# Altium integrated library Cypress PSoC 1.IntLib: 188 symbols (part 1 of 11)
Pins are listed as number, name and electrical type; pins without a type are passive.

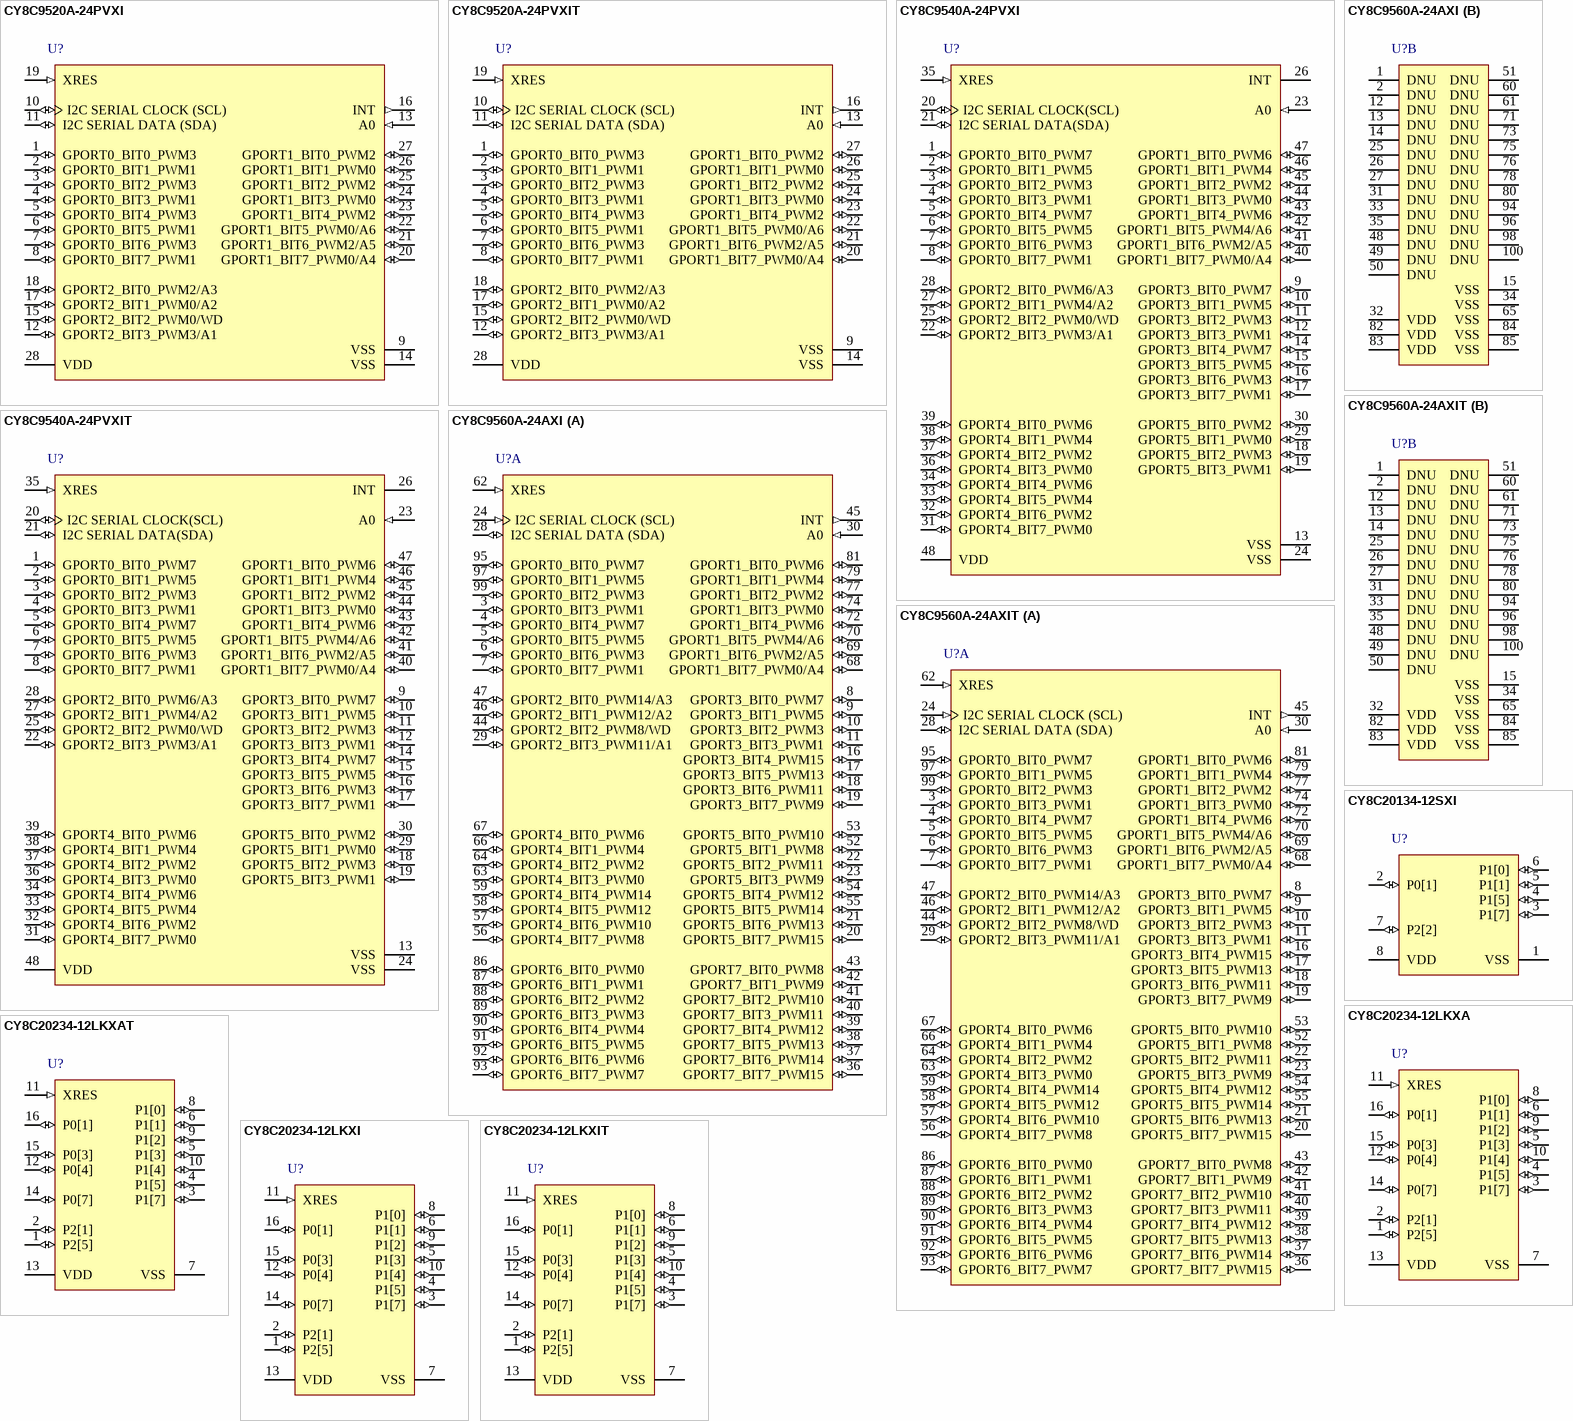
[diagram p0: symbols CY8C9520A-24PVXI to CY8C20234-12LKXIT]

## CY8C9520A-24PVXI
designator U?
20-Bit I/O Expander with EEPROM, 3 KB Flash, 20 GPIOs, 3.00 to 5.25 V, 28-Pin SSOP (O28.21); Manufacturer: Cypress; PartNumber: CY8C9520A-24PVXI; Flash (KB): 3; Max. Operating Voltage (V): 5.25; Min. Operating Voltage (V): 3.00; DatasheetVersion: Rev. *F; PackageVersion: *C; PackageReference: PVX28; PackageDescription: 28-Pin SSOP, Body 10.2 x 5.3 mm, Pitch 0.65 mm; Supplier 1: Digi-Key; Supplier Part Number 1: 428-2015-5-ND; Supplier 2: Farnell; Supplier Part Number 2: 1876382; Supplier 3: Newark; Supplier Part Number 3: 41M1395; Supplier 4: Mouser; Supplier Part Number 4: 727-CY8C9520A-24PVXI; Mounting Technology: Surface Mount; ComponentLink1Description: Manufacturer URL; ComponentLink1URL: http://www.cypress.com/; ComponentLink2Description: Datasheet; ComponentLink2URL: http://www.cypress.com/?docID=31413; ComponentLink3Description: Package Specification; ComponentLink3URL: http://www.cypress.com/?docID=1371; ComponentLink4Description: Product URL; ComponentLink4URL: http://www.cypress.com/?rID=3354
footprint CYP-PVX28_N (SOP, 28-Leads, Body 10.2x5.3mm, Pitch 0.65mm, IPC Medium Density)
footprint CYP-PVX28_L (SOP, 28-Leads, Body 10.2x5.3mm, Pitch 0.65mm, IPC High Density)
footprint CYP-PVX28_M (SOP, 28-Leads, Body 10.2x5.3mm, Pitch 0.65mm, IPC Low Density)
pins: 1 GPORT0_BIT0_PWM3 (io) "Port 0, Bit 0, PWM 3.", 2 GPORT0_BIT1_PWM1 (io) "Port 0, Bit 1, PWM 1", 3 GPORT0_BIT2_PWM3 (io) "Port 0, Bit 2, PWM 3.", 4 GPORT0_BIT3_PWM1 (io) "Port 0, Bit 3, PWM 1.", 5 GPORT0_BIT4_PWM3 (io) "Port 0, Bit 4, PWM 3.", 6 GPORT0_BIT5_PWM1 (io) "Port 0, Bit 5, PWM 1.", 7 GPORT0_BIT6_PWM3 (io) "Port 0, Bit 6, PWM 3.", 8 GPORT0_BIT7_PWM1 (io) "Port 0, Bit 7, PWM 1.", 9 VSS (power) "Ground connection.", 10 I2C SERIAL CLOCK (SCL) (io) "I2C Clock.", 11 I2C SERIAL DATA (SDA) (io) "I2C Data.", 12 GPORT2_BIT3_PWM3/A1 (io) "Port 2, Bit 3, PWM 3, Address 1.", 13 A0 (in) "Address 0.", 14 VSS (power) "Ground connection.", 15 GPORT2_BIT2_PWM0/WD (io) "Port 2, Bit 2, PWM 0, E2 Write Disable.", 16 INT (out), 17 GPORT2_BIT1_PWM0/A2 (io) "Port 2, Bit 1, PWM 0, Address 2.", 18 GPORT2_BIT0_PWM2/A3 (io) "Port 2, Bit 0, PWM 2, Address 3.", 19 XRES (in) "Active high external reset with internal pull down.", 20 GPORT1_BIT7_PWM0/A4 (io) "Port 1, Bit 7, PWM 0, Address 4.", 21 GPORT1_BIT6_PWM2/A5 (io) "Port 1, Bit 6, PWM 2, Address 5.", 22 GPORT1_BIT5_PWM0/A6 (io) "Port 1, Bit 5, PWM 0, Address 6.", 23 GPORT1_BIT4_PWM2 (io) "Port 1, Bit 4, PWM 2.", 24 GPORT1_BIT3_PWM0 (io) "Port 1, Bit 3, PWM 0.", 25 GPORT1_BIT2_PWM2 (io) "Port 1, Bit 2, PWM 2.", 26 GPORT1_BIT1_PWM0 (io) "Port 1, Bit 1, PWM 0.", 27 GPORT1_BIT0_PWM2 (io) "Port 1, Bit 0, PWM 2.", 28 VDD (power) "Supply voltage."

## CY8C9520A-24PVXIT
designator U?
20-Bit I/O Expander with EEPROM, 3 KB Flash, 20 GPIOs, 3.00 to 5.25 V, 28-Pin SSOP (O28.21), Tape and Reel; Manufacturer: Cypress; PartNumber: CY8C9520A-24PVXIT; Flash (KB): 3; Max. Operating Voltage (V): 5.25; Min. Operating Voltage (V): 3.00; DatasheetVersion: Rev. *F; PackageVersion: *C; PackageReference: PVX28; PackageDescription: 28-Pin SSOP, Body 10.2 x 5.3 mm, Pitch 0.65 mm; Supplier 1: Digi-Key; Supplier Part Number 1: CY8C9520A-24PVXIT-ND; Supplier 2: Mouser; Supplier Part Number 2: 727-CY8C9520A24PVXIT; Mounting Technology: Surface Mount; ComponentLink1Description: Manufacturer URL; ComponentLink1URL: http://www.cypress.com/; ComponentLink2Description: Datasheet; ComponentLink2URL: http://www.cypress.com/?docID=31413; ComponentLink3Description: Package Specification; ComponentLink3URL: http://www.cypress.com/?docID=1371; ComponentLink4Description: Product URL; ComponentLink4URL: http://www.cypress.com/?rID=3354
footprint CYP-PVX28_N (SOP, 28-Leads, Body 10.2x5.3mm, Pitch 0.65mm, IPC Medium Density)
footprint CYP-PVX28_L (SOP, 28-Leads, Body 10.2x5.3mm, Pitch 0.65mm, IPC High Density)
footprint CYP-PVX28_M (SOP, 28-Leads, Body 10.2x5.3mm, Pitch 0.65mm, IPC Low Density)
pins: 1 GPORT0_BIT0_PWM3 (io) "Port 0, Bit 0, PWM 3.", 2 GPORT0_BIT1_PWM1 (io) "Port 0, Bit 1, PWM 1", 3 GPORT0_BIT2_PWM3 (io) "Port 0, Bit 2, PWM 3.", 4 GPORT0_BIT3_PWM1 (io) "Port 0, Bit 3, PWM 1.", 5 GPORT0_BIT4_PWM3 (io) "Port 0, Bit 4, PWM 3.", 6 GPORT0_BIT5_PWM1 (io) "Port 0, Bit 5, PWM 1.", 7 GPORT0_BIT6_PWM3 (io) "Port 0, Bit 6, PWM 3.", 8 GPORT0_BIT7_PWM1 (io) "Port 0, Bit 7, PWM 1.", 9 VSS (power) "Ground connection.", 10 I2C SERIAL CLOCK (SCL) (io) "I2C Clock.", 11 I2C SERIAL DATA (SDA) (io) "I2C Data.", 12 GPORT2_BIT3_PWM3/A1 (io) "Port 2, Bit 3, PWM 3, Address 1.", 13 A0 (in) "Address 0.", 14 VSS (power) "Ground connection.", 15 GPORT2_BIT2_PWM0/WD (io) "Port 2, Bit 2, PWM 0, E2 Write Disable.", 16 INT (out), 17 GPORT2_BIT1_PWM0/A2 (io) "Port 2, Bit 1, PWM 0, Address 2.", 18 GPORT2_BIT0_PWM2/A3 (io) "Port 2, Bit 0, PWM 2, Address 3.", 19 XRES (in) "Active high external reset with internal pull down.", 20 GPORT1_BIT7_PWM0/A4 (io) "Port 1, Bit 7, PWM 0, Address 4.", 21 GPORT1_BIT6_PWM2/A5 (io) "Port 1, Bit 6, PWM 2, Address 5.", 22 GPORT1_BIT5_PWM0/A6 (io) "Port 1, Bit 5, PWM 0, Address 6.", 23 GPORT1_BIT4_PWM2 (io) "Port 1, Bit 4, PWM 2.", 24 GPORT1_BIT3_PWM0 (io) "Port 1, Bit 3, PWM 0.", 25 GPORT1_BIT2_PWM2 (io) "Port 1, Bit 2, PWM 2.", 26 GPORT1_BIT1_PWM0 (io) "Port 1, Bit 1, PWM 0.", 27 GPORT1_BIT0_PWM2 (io) "Port 1, Bit 0, PWM 2.", 28 VDD (power) "Supply voltage."

## CY8C9540A-24PVXI
designator U?
60-Bit I/O Expander with EEPROM, 11 KB Flash, 40 GPIOs, 3.00 to 5.25 V, 48-Pin SSOP (O483); Manufacturer: Cypress; PartNumber: CY8C9540A-24PVXI; Flash (KB): 11; Max. Operating Voltage (V): 5.25; Min. Operating Voltage (V): 3.00; DatasheetVersion: Rev. *F; PackageVersion: *D; PackageReference: PVX48; PackageDescription: 48-Pin Shrunk Small Outline Package, Body 15.88 x 7.51 mm, Pitch 0.64 mm; Supplier 1: Digi-Key; Supplier Part Number 1: 428-2016-5-ND; Supplier 2: Mouser; Supplier Part Number 2: 727-CY8C9540A-24PVXI; Mounting Technology: Surface Mount; ComponentLink1Description: Manufacturer URL; ComponentLink1URL: http://www.cypress.com/; ComponentLink2Description: Datasheet; ComponentLink2URL: http://www.cypress.com/?docID=31413; ComponentLink3Description: Package Specification; ComponentLink3URL: http://www.cypress.com/?docID=39235; ComponentLink4Description: Product URL; ComponentLink4URL: http://www.cypress.com/?rID=3354
footprint CYP-PVX48_N (SOP, 48-Leads, Body 15.88x7.51mm, Pitch 0.635mm, IPC Medium Density)
footprint CYP-PVX48_L (SOP, 48-Leads, Body 15.88x7.51mm, Pitch 0.635mm, IPC High Density)
footprint CYP-PVX48_M (SOP, 48-Leads, Body 15.88x7.51mm, Pitch 0.635mm, IPC Low Density)
pins: 1 GPORT0_BIT0_PWM7 (io) "Port 0, Bit 0, PWM 7.", 2 GPORT0_BIT1_PWM5 (io) "Port 0, Bit 1, PWM 5.", 3 GPORT0_BIT2_PWM3 (io) "Port 0, Bit 2, PWM 3.", 4 GPORT0_BIT3_PWM1 (io) "Port 0, Bit 3, PWM 1.", 5 GPORT0_BIT4_PWM7 (io) "Port 0, Bit 4, PWM 7.", 6 GPORT0_BIT5_PWM5 (io) "Port 0, Bit 5, PWM 5.", 7 GPORT0_BIT6_PWM3 (io) "Port 0, Bit 6, PWM 3.", 8 GPORT0_BIT7_PWM1 (io) "Port 0, Bit 7, PWM 1.", 9 GPORT3_BIT0_PWM7 (io) "Port 3, Bit 0, PWM 7.", 10 GPORT3_BIT1_PWM5 (io) "Port 3, Bit 1, PWM 5.", 11 GPORT3_BIT2_PWM3 (io) "Port 3, Bit 2, PWM 3.", 12 GPORT3_BIT3_PWM1 (io) "Port 3, Bit 3, PWM 1.", 13 VSS (power) "Ground connection.", 14 GPORT3_BIT4_PWM7 (io) "Port 3, Bit 4, PWM 7.", 15 GPORT3_BIT5_PWM5 (io) "Port 3, Bit 5, PWM 5.", 16 GPORT3_BIT6_PWM3 (io) "Port 3, Bit 6, PWM 3.", 17 GPORT3_BIT7_PWM1 (io) "Port 3, Bit 7, PWM 1.", 18 GPORT5_BIT2_PWM3 (io) "Port 5, Bit 2, PWM 3.", 19 GPORT5_BIT3_PWM1 (io) "Port 5, Bit 3, PWM 1.", 20 I2C SERIAL CLOCK(SCL) (io) "I2C Clock.", 21 I2C SERIAL DATA(SDA) (io) "I2C Data.", 22 GPORT2_BIT3_PWM3/A1 (io) "Port 2, Bit 3, PWM 3, Address 1.", 23 A0 (in) "Address 0.", 24 VSS (power) "Ground connection.", 25 GPORT2_BIT2_PWM0/WD (io) "Port 2, Bit 2, PWM 0, E2 Write Disable.", 26 INT (hiz), 27 GPORT2_BIT1_PWM4/A2 (io) "Port 2, Bit 1, PWM 4, Address 2.", 28 GPORT2_BIT0_PWM6/A3 (io) "Port 2, Bit 0, PWM 6, Address 3.", 29 GPORT5_BIT1_PWM0 (io) "Port 5, Bit 1, PWM 0.", 30 GPORT5_BIT0_PWM2 (io) "Port 5, Bit 0, PWM 2.", 31 GPORT4_BIT7_PWM0 (io) "Port 4, Bit 7, PWM 0.", 32 GPORT4_BIT6_PWM2 (io) "Port 4, Bit 6, PWM 2.", 33 GPORT4_BIT5_PWM4 (io) "Port 4, Bit 5, PWM 4.", 34 GPORT4_BIT4_PWM6 (io) "Port 4, Bit 4, PWM 6.", 35 XRES (in) "Active high external reset with internal pull down.", 36 GPORT4_BIT3_PWM0 (io) "Port 4, Bit 3, PWM 0.", 37 GPORT4_BIT2_PWM2 (io) "Port 4, Bit 2, PWM 2.", 38 GPORT4_BIT1_PWM4 (io) "Port 4, Bit 1, PWM 4.", 39 GPORT4_BIT0_PWM6 (io) "Port 4, Bit 0, PWM 6.", 40 GPORT1_BIT7_PWM0/A4 (io) "Port 1, Bit 7, PWM 0, Address 4.", 41 GPORT1_BIT6_PWM2/A5 (io) "Port 1, Bit 6, PWM 2, Address 5.", 42 GPORT1_BIT5_PWM4/A6 (io) "Port 1, Bit 5, PWM 4, Address 6.", 43 GPORT1_BIT4_PWM6 (io) "Port 1, Bit 4, PWM 6.", 44 GPORT1_BIT3_PWM0 (io) "Port 1, Bit 3, PWM 0.", 45 GPORT1_BIT2_PWM2 (io) "Port 1, Bit 2, PWM 2.", 46 GPORT1_BIT1_PWM4 (io) "Port 1, Bit 1, PWM 4.", 47 GPORT1_BIT0_PWM6 (io) "Port 1, Bit 0, PWM 6.", 48 VDD (power) "Supply voltage."

## CY8C9540A-24PVXIT
designator U?
60-Bit I/O Expander with EEPROM, 11 KB Flash, 40 GPIOs, 3.00 to 5.25 V, 48-Pin SSOP (O483), Tape and Reel; Manufacturer: Cypress; PartNumber: CY8C9540A-24PVXIT; Flash (KB): 11; Max. Operating Voltage (V): 5.25; Min. Operating Voltage (V): 3.00; DatasheetVersion: Rev. *F; PackageVersion: *D; PackageReference: PVX48; PackageDescription: 48-Pin Shrunk Small Outline Package, Body 15.88 x 7.51 mm, Pitch 0.64 mm; Supplier 1: Digi-Key; Supplier Part Number 1: CY8C9540A-24PVXIT-ND; Supplier 2: Mouser; Supplier Part Number 2: 727-CY8C9540A24PVXIT; Mounting Technology: Surface Mount; ComponentLink1Description: Manufacturer URL; ComponentLink1URL: http://www.cypress.com/; ComponentLink2Description: Datasheet; ComponentLink2URL: http://www.cypress.com/?docID=31413; ComponentLink3Description: Package Specification; ComponentLink3URL: http://www.cypress.com/?docID=39235; ComponentLink4Description: Product URL; ComponentLink4URL: http://www.cypress.com/?rID=3354
footprint CYP-PVX48_N (SOP, 48-Leads, Body 15.88x7.51mm, Pitch 0.635mm, IPC Medium Density)
footprint CYP-PVX48_L (SOP, 48-Leads, Body 15.88x7.51mm, Pitch 0.635mm, IPC High Density)
footprint CYP-PVX48_M (SOP, 48-Leads, Body 15.88x7.51mm, Pitch 0.635mm, IPC Low Density)
pins: 1 GPORT0_BIT0_PWM7 (io) "Port 0, Bit 0, PWM 7.", 2 GPORT0_BIT1_PWM5 (io) "Port 0, Bit 1, PWM 5.", 3 GPORT0_BIT2_PWM3 (io) "Port 0, Bit 2, PWM 3.", 4 GPORT0_BIT3_PWM1 (io) "Port 0, Bit 3, PWM 1.", 5 GPORT0_BIT4_PWM7 (io) "Port 0, Bit 4, PWM 7.", 6 GPORT0_BIT5_PWM5 (io) "Port 0, Bit 5, PWM 5.", 7 GPORT0_BIT6_PWM3 (io) "Port 0, Bit 6, PWM 3.", 8 GPORT0_BIT7_PWM1 (io) "Port 0, Bit 7, PWM 1.", 9 GPORT3_BIT0_PWM7 (io) "Port 3, Bit 0, PWM 7.", 10 GPORT3_BIT1_PWM5 (io) "Port 3, Bit 1, PWM 5.", 11 GPORT3_BIT2_PWM3 (io) "Port 3, Bit 2, PWM 3.", 12 GPORT3_BIT3_PWM1 (io) "Port 3, Bit 3, PWM 1.", 13 VSS (power) "Ground connection.", 14 GPORT3_BIT4_PWM7 (io) "Port 3, Bit 4, PWM 7.", 15 GPORT3_BIT5_PWM5 (io) "Port 3, Bit 5, PWM 5.", 16 GPORT3_BIT6_PWM3 (io) "Port 3, Bit 6, PWM 3.", 17 GPORT3_BIT7_PWM1 (io) "Port 3, Bit 7, PWM 1.", 18 GPORT5_BIT2_PWM3 (io) "Port 5, Bit 2, PWM 3.", 19 GPORT5_BIT3_PWM1 (io) "Port 5, Bit 3, PWM 1.", 20 I2C SERIAL CLOCK(SCL) (io) "I2C Clock.", 21 I2C SERIAL DATA(SDA) (io) "I2C Data.", 22 GPORT2_BIT3_PWM3/A1 (io) "Port 2, Bit 3, PWM 3, Address 1.", 23 A0 (in) "Address 0.", 24 VSS (power) "Ground connection.", 25 GPORT2_BIT2_PWM0/WD (io) "Port 2, Bit 2, PWM 0, E2 Write Disable.", 26 INT (hiz), 27 GPORT2_BIT1_PWM4/A2 (io) "Port 2, Bit 1, PWM 4, Address 2.", 28 GPORT2_BIT0_PWM6/A3 (io) "Port 2, Bit 0, PWM 6, Address 3.", 29 GPORT5_BIT1_PWM0 (io) "Port 5, Bit 1, PWM 0.", 30 GPORT5_BIT0_PWM2 (io) "Port 5, Bit 0, PWM 2.", 31 GPORT4_BIT7_PWM0 (io) "Port 4, Bit 7, PWM 0.", 32 GPORT4_BIT6_PWM2 (io) "Port 4, Bit 6, PWM 2.", 33 GPORT4_BIT5_PWM4 (io) "Port 4, Bit 5, PWM 4.", 34 GPORT4_BIT4_PWM6 (io) "Port 4, Bit 4, PWM 6.", 35 XRES (in) "Active high external reset with internal pull down.", 36 GPORT4_BIT3_PWM0 (io) "Port 4, Bit 3, PWM 0.", 37 GPORT4_BIT2_PWM2 (io) "Port 4, Bit 2, PWM 2.", 38 GPORT4_BIT1_PWM4 (io) "Port 4, Bit 1, PWM 4.", 39 GPORT4_BIT0_PWM6 (io) "Port 4, Bit 0, PWM 6.", 40 GPORT1_BIT7_PWM0/A4 (io) "Port 1, Bit 7, PWM 0, Address 4.", 41 GPORT1_BIT6_PWM2/A5 (io) "Port 1, Bit 6, PWM 2, Address 5.", 42 GPORT1_BIT5_PWM4/A6 (io) "Port 1, Bit 5, PWM 4, Address 6.", 43 GPORT1_BIT4_PWM6 (io) "Port 1, Bit 4, PWM 6.", 44 GPORT1_BIT3_PWM0 (io) "Port 1, Bit 3, PWM 0.", 45 GPORT1_BIT2_PWM2 (io) "Port 1, Bit 2, PWM 2.", 46 GPORT1_BIT1_PWM4 (io) "Port 1, Bit 1, PWM 4.", 47 GPORT1_BIT0_PWM6 (io) "Port 1, Bit 0, PWM 6.", 48 VDD (power) "Supply voltage."

## CY8C9560A-24AXI
designator U?
60-Bit I/O Expander with EEPROM, 27 KB Flash, 60 GPIOs, 3.00 to 5.25 V, 100-Pin TQFP (A100SA); Manufacturer: Cypress; PartNumber: CY8C9560A-24AXI; Flash (KB): 27; Max. Operating Voltage (V): 5.25; Min. Operating Voltage (V): 3.00; DatasheetVersion: Rev. *F; PackageVersion: *D; PackageReference: AX100; PackageDescription: 100-Pin Thin Plastic Quad Flatpack, Body 14 x14 mm, Pitch 0.5 mm; Supplier 1: Digi-Key; Supplier Part Number 1: 428-2017-ND; Supplier 2: Newark; Supplier Part Number 2: 41M1399; Supplier 3: Mouser; Supplier Part Number 3: 727-CY8C9560A-24AXI; Mounting Technology: Surface Mount; Code_JEDEC: MS-026; ComponentLink1Description: Manufacturer URL; ComponentLink1URL: http://www.cypress.com/; ComponentLink2Description: Datasheet; ComponentLink2URL: http://www.cypress.com/?docID=31413; ComponentLink3Description: Package Specification; ComponentLink3URL: http://www.cypress.com/?docID=35576; ComponentLink4Description: Product URL; ComponentLink4URL: http://www.cypress.com/?rID=3354
footprint CYP-AX100_N (QFN, 100-Leads, Body 14x14mm, Pitch 0.5mm, IPC Medium Density)
footprint CYP-AX100_L (QFN, 100-Leads, Body 14x14mm, Pitch 0.5mm, IPC High Density)
footprint CYP-AX100_M (QFN, 100-Leads, Body 14x14mm, Pitch 0.5mm, IPC Low Density)
part A pins: 3 GPORT0_BIT3_PWM1 (io) "Port 0, Bit 3, PWM 1.", 4 GPORT0_BIT4_PWM7 (io) "Port 0, Bit 4, PWM 7.", 5 GPORT0_BIT5_PWM5 (io) "Port 0, Bit 5, PWM 5.", 6 GPORT0_BIT6_PWM3 (io) "Port 0, Bit 6, PWM 3.", 7 GPORT0_BIT7_PWM1 (io) "Port 0, Bit 7, PWM 1.", 8 GPORT3_BIT0_PWM7 (io) "Port 3, Bit 0, PWM 7.", 9 GPORT3_BIT1_PWM5 (io) "Port 3, Bit 1, PWM 5.", 10 GPORT3_BIT2_PWM3 (io) "Port 3, Bit 2, PWM 3.", 11 GPORT3_BIT3_PWM1 (io) "Port 3, Bit 3, PWM 1.", 16 GPORT3_BIT4_PWM15 (io) "Port 3, Bit 4, PWM 15.", 17 GPORT3_BIT5_PWM13 (io) "Port 3, Bit 5, PWM 13.", 18 GPORT3_BIT6_PWM11 (io) "Port 3, Bit 6, PWM 11.", 19 GPORT3_BIT7_PWM9 (io) "Port 3, Bit 7, PWM 9.", 20 GPORT5_BIT7_PWM15 (io) "Port 5, Bit 7, PWM 15.", 21 GPORT5_BIT6_PWM13 (io) "Port 5, Bit 6, PWM 13.", 22 GPORT5_BIT2_PWM11 (io) "Port 5, Bit 2, PWM 11.", 23 GPORT5_BIT3_PWM9 (io) "Port 5, Bit 3, PWM 9.", 24 I2C SERIAL CLOCK (SCL) (in) "I2C Clock.", 28 I2C SERIAL DATA (SDA) (io) "I2C Data.", 29 GPORT2_BIT3_PWM11/A1 (io) "Port 2, Bit 3, PWM 11, Address 1.", 30 A0 (in) "Address 0.", 36 GPORT7_BIT7_PWM15 (io) "Port 7, Bit 7, PWM 15.", 37 GPORT7_BIT6_PWM14 (io) "Port 7, Bit 6, PWM 14.", 38 GPORT7_BIT5_PWM13 (io) "Port 7, Bit 5, PWM 13.", 39 GPORT7_BIT4_PWM12 (io) "Port 7, Bit 4, PWM 12.", 40 GPORT7_BIT3_PWM11 (io) "Port 7, Bit 3, PWM 11.", 41 GPORT7_BIT2_PWM10 (io) "Port 7, Bit 2, PWM 10.", 42 GPORT7_BIT1_PWM9 (io) "Port 7, Bit 1, PWM 9.", 43 GPORT7_BIT0_PWM8 (io) "Port 7, Bit 0, PWM 8.", 44 GPORT2_BIT2_PWM8/WD (io) "Port 2, Bit 2, PWM 8, E 2  Write Disable.", 45 INT (out), 46 GPORT2_BIT1_PWM12/A2 (io) "Port 2, Bit 7, PWM 0, Address 4.", 47 GPORT2_BIT0_PWM14/A3 (io) "Port 2, Bit 6, PWM 2, Address 5.", 52 GPORT5_BIT1_PWM8 (io) "Port 5, Bit 1, PWM 8.", 53 GPORT5_BIT0_PWM10 (io) "Port 5, Bit 0, PWM 10.", 54 GPORT5_BIT4_PWM12 (io) "Port 5, Bit 4, PWM 12.", 55 GPORT5_BIT5_PWM14 (io) "Port 5, Bit 5, PWM 14.", 56 GPORT4_BIT7_PWM8 (io) "Port 4, Bit 7, PWM 8.", 57 GPORT4_BIT6_PWM10 (io) "Port 4, Bit 6, PWM 10.", 58 GPORT4_BIT5_PWM12 (io) "Port 4, Bit 5, PWM 12.", 59 GPORT4_BIT4_PWM14 (io) "Port 4, Bit 4, PWM 14.", 62 XRES (in) "Active high external reset with internal pull down.", 63 GPORT4_BIT3_PWM0 (io) "Port 4, Bit 3, PWM 0.", 64 GPORT4_BIT2_PWM2 (io) "Port 4, Bit 2, PWM 2.", 66 GPORT4_BIT1_PWM4 (io) "Port 4, Bit 1, PWM 4.", 67 GPORT4_BIT0_PWM6 (io) "Port 4, Bit 0, PWM 6.", 68 GPORT1_BIT7_PWM0/A4 (io) "Port 1, Bit 7, PWM 0, Address 4.", 69 GPORT1_BIT6_PWM2/A5 (io) "Port 1, Bit 6, PWM 2, Address 5.", 70 GPORT1_BIT5_PWM4/A6 (io) "Port 1, Bit 5, PWM 4, Address 6.", 72 GPORT1_BIT4_PWM6 (io) "Port 1, Bit 4, PWM 6.", 74 GPORT1_BIT3_PWM0 (io) "Port 1, Bit 3, PWM 0.", 77 GPORT1_BIT2_PWM2 (io) "Port 1, Bit 2, PWM 2.", 79 GPORT1_BIT1_PWM4 (io) "Port 1, Bit 1, PWM 4.", 81 GPORT1_BIT0_PWM6 (io) "Port 1, Bit 0, PWM 6.", 86 GPORT6_BIT0_PWM0 (io) "Port 6, Bit 0, PWM 0.", 87 GPORT6_BIT1_PWM1 (io) "Port 6, Bit 1, PWM 1.", 88 GPORT6_BIT2_PWM2 (io) "Port 6, Bit 2, PWM 2.", 89 GPORT6_BIT3_PWM3 (io) "Port 6, Bit 3, PWM 3.", 90 GPORT6_BIT4_PWM4 (io) "Port 6, Bit 4, PWM 4.", 91 GPORT6_BIT5_PWM5 (io) "Port 6, Bit 5, PWM 5.", 92 GPORT6_BIT6_PWM6 (io) "Port 6, Bit 6, PWM 6.", 93 GPORT6_BIT7_PWM7 (io) "Port 6, Bit 7, PWM 7.", 95 GPORT0_BIT0_PWM7 (io) "Port 0, Bit 0, PWM 7.", 97 GPORT0_BIT1_PWM5 (io) "Port 0, Bit 1, PWM 5.", 99 GPORT0_BIT2_PWM3 (io) "Port 0, Bit 2, PWM 3."
part B pins: 1 DNU "DNU = Do Not Use; leave floating.", 2 DNU "DNU = Do Not Use; leave floating.", 12 DNU "DNU = Do Not Use; leave floating.", 13 DNU "DNU = Do Not Use; leave floating.", 14 DNU "DNU = Do Not Use; leave floating.", 15 VSS (power) "Ground connection.", 25 DNU "DNU = Do Not Use; leave floating.", 26 DNU "DNU = Do Not Use; leave floating.", 27 DNU "DNU = Do Not Use; leave floating.", 31 DNU "DNU = Do Not Use; leave floating.", 32 VDD (power) "Supply voltage.", 33 DNU "DNU = Do Not Use; leave floating.", 34 VSS (power) "Ground connection.", 35 DNU "DNU = Do Not Use; leave floating.", 48 DNU "DNU = Do Not Use; leave floating.", 49 DNU "DNU = Do Not Use; leave floating.", 50 DNU "DNU = Do Not Use; leave floating.", 51 DNU "DNU = Do Not Use; leave floating.", 60 DNU "DNU = Do Not Use; leave floating.", 61 DNU "DNU = Do Not Use; leave floating.", 65 VSS (power) "Ground connection.", 71 DNU "DNU = Do Not Use; leave floating.", 73 DNU "DNU = Do Not Use; leave floating.", 75 DNU "DNU = Do Not Use; leave floating.", 76 DNU "DNU = Do Not Use; leave floating.", 78 DNU "DNU = Do Not Use; leave floating.", 80 DNU "DNU = Do Not Use; leave floating.", 82 VDD (power) "Supply voltage.", 83 VDD (power) "Supply voltage.", 84 VSS (power) "Ground connection.", 85 VSS (power) "Ground connection.", 94 DNU "DNU = Do Not Use; leave floating.", 96 DNU "DNU = Do Not Use; leave floating.", 98 DNU "DNU = Do Not Use; leave floating.", 100 DNU "DNU = Do Not Use; leave floating."

## CY8C9560A-24AXIT
designator U?
60-Bit I/O Expander with EEPROM, 27 KB Flash, 60 GPIOs, 3.00 to 5.25 V, 100-Pin TQFP (A100SA), Tape and Reel; Manufacturer: Cypress; PartNumber: CY8C9560A-24AXIT; Flash (KB): 27; Max. Operating Voltage (V): 5.25; Min. Operating Voltage (V): 3.00; DatasheetVersion: Rev. *F; PackageVersion: *D; PackageReference: AX100; PackageDescription: 100-Pin Thin Plastic Quad Flatpack, Body 14 x14 mm, Pitch 0.5 mm; Supplier 1: Digi-Key; Supplier Part Number 1: CY8C9560A-24AXIT-ND; Supplier 2: Mouser; Supplier Part Number 2: 727-CY8C9560A-24AXIT; Mounting Technology: Surface Mount; Code_JEDEC: MS-026; ComponentLink1Description: Manufacturer URL; ComponentLink1URL: http://www.cypress.com/; ComponentLink2Description: Datasheet; ComponentLink2URL: http://www.cypress.com/?docID=31413; ComponentLink3Description: Package Specification; ComponentLink3URL: http://www.cypress.com/?docID=35576; ComponentLink4Description: Product URL; ComponentLink4URL: http://www.cypress.com/?rID=3354
footprint CYP-AX100_N (QFN, 100-Leads, Body 14x14mm, Pitch 0.5mm, IPC Medium Density)
footprint CYP-AX100_L (QFN, 100-Leads, Body 14x14mm, Pitch 0.5mm, IPC High Density)
footprint CYP-AX100_M (QFN, 100-Leads, Body 14x14mm, Pitch 0.5mm, IPC Low Density)
part A pins: 3 GPORT0_BIT3_PWM1 (io) "Port 0, Bit 3, PWM 1.", 4 GPORT0_BIT4_PWM7 (io) "Port 0, Bit 4, PWM 7.", 5 GPORT0_BIT5_PWM5 (io) "Port 0, Bit 5, PWM 5.", 6 GPORT0_BIT6_PWM3 (io) "Port 0, Bit 6, PWM 3.", 7 GPORT0_BIT7_PWM1 (io) "Port 0, Bit 7, PWM 1.", 8 GPORT3_BIT0_PWM7 (io) "Port 3, Bit 0, PWM 7.", 9 GPORT3_BIT1_PWM5 (io) "Port 3, Bit 1, PWM 5.", 10 GPORT3_BIT2_PWM3 (io) "Port 3, Bit 2, PWM 3.", 11 GPORT3_BIT3_PWM1 (io) "Port 3, Bit 3, PWM 1.", 16 GPORT3_BIT4_PWM15 (io) "Port 3, Bit 4, PWM 15.", 17 GPORT3_BIT5_PWM13 (io) "Port 3, Bit 5, PWM 13.", 18 GPORT3_BIT6_PWM11 (io) "Port 3, Bit 6, PWM 11.", 19 GPORT3_BIT7_PWM9 (io) "Port 3, Bit 7, PWM 9.", 20 GPORT5_BIT7_PWM15 (io) "Port 5, Bit 7, PWM 15.", 21 GPORT5_BIT6_PWM13 (io) "Port 5, Bit 6, PWM 13.", 22 GPORT5_BIT2_PWM11 (io) "Port 5, Bit 2, PWM 11.", 23 GPORT5_BIT3_PWM9 (io) "Port 5, Bit 3, PWM 9.", 24 I2C SERIAL CLOCK (SCL) (in) "I2C Clock.", 28 I2C SERIAL DATA (SDA) (io) "I2C Data.", 29 GPORT2_BIT3_PWM11/A1 (io) "Port 2, Bit 3, PWM 11, Address 1.", 30 A0 (in) "Address 0.", 36 GPORT7_BIT7_PWM15 (io) "Port 7, Bit 7, PWM 15.", 37 GPORT7_BIT6_PWM14 (io) "Port 7, Bit 6, PWM 14.", 38 GPORT7_BIT5_PWM13 (io) "Port 7, Bit 5, PWM 13.", 39 GPORT7_BIT4_PWM12 (io) "Port 7, Bit 4, PWM 12.", 40 GPORT7_BIT3_PWM11 (io) "Port 7, Bit 3, PWM 11.", 41 GPORT7_BIT2_PWM10 (io) "Port 7, Bit 2, PWM 10.", 42 GPORT7_BIT1_PWM9 (io) "Port 7, Bit 1, PWM 9.", 43 GPORT7_BIT0_PWM8 (io) "Port 7, Bit 0, PWM 8.", 44 GPORT2_BIT2_PWM8/WD (io) "Port 2, Bit 2, PWM 8, E 2  Write Disable.", 45 INT (out), 46 GPORT2_BIT1_PWM12/A2 (io) "Port 2, Bit 7, PWM 0, Address 4.", 47 GPORT2_BIT0_PWM14/A3 (io) "Port 2, Bit 6, PWM 2, Address 5.", 52 GPORT5_BIT1_PWM8 (io) "Port 5, Bit 1, PWM 8.", 53 GPORT5_BIT0_PWM10 (io) "Port 5, Bit 0, PWM 10.", 54 GPORT5_BIT4_PWM12 (io) "Port 5, Bit 4, PWM 12.", 55 GPORT5_BIT5_PWM14 (io) "Port 5, Bit 5, PWM 14.", 56 GPORT4_BIT7_PWM8 (io) "Port 4, Bit 7, PWM 8.", 57 GPORT4_BIT6_PWM10 (io) "Port 4, Bit 6, PWM 10.", 58 GPORT4_BIT5_PWM12 (io) "Port 4, Bit 5, PWM 12.", 59 GPORT4_BIT4_PWM14 (io) "Port 4, Bit 4, PWM 14.", 62 XRES (in) "Active high external reset with internal pull down.", 63 GPORT4_BIT3_PWM0 (io) "Port 4, Bit 3, PWM 0.", 64 GPORT4_BIT2_PWM2 (io) "Port 4, Bit 2, PWM 2.", 66 GPORT4_BIT1_PWM4 (io) "Port 4, Bit 1, PWM 4.", 67 GPORT4_BIT0_PWM6 (io) "Port 4, Bit 0, PWM 6.", 68 GPORT1_BIT7_PWM0/A4 (io) "Port 1, Bit 7, PWM 0, Address 4.", 69 GPORT1_BIT6_PWM2/A5 (io) "Port 1, Bit 6, PWM 2, Address 5.", 70 GPORT1_BIT5_PWM4/A6 (io) "Port 1, Bit 5, PWM 4, Address 6.", 72 GPORT1_BIT4_PWM6 (io) "Port 1, Bit 4, PWM 6.", 74 GPORT1_BIT3_PWM0 (io) "Port 1, Bit 3, PWM 0.", 77 GPORT1_BIT2_PWM2 (io) "Port 1, Bit 2, PWM 2.", 79 GPORT1_BIT1_PWM4 (io) "Port 1, Bit 1, PWM 4.", 81 GPORT1_BIT0_PWM6 (io) "Port 1, Bit 0, PWM 6.", 86 GPORT6_BIT0_PWM0 (io) "Port 6, Bit 0, PWM 0.", 87 GPORT6_BIT1_PWM1 (io) "Port 6, Bit 1, PWM 1.", 88 GPORT6_BIT2_PWM2 (io) "Port 6, Bit 2, PWM 2.", 89 GPORT6_BIT3_PWM3 (io) "Port 6, Bit 3, PWM 3.", 90 GPORT6_BIT4_PWM4 (io) "Port 6, Bit 4, PWM 4.", 91 GPORT6_BIT5_PWM5 (io) "Port 6, Bit 5, PWM 5.", 92 GPORT6_BIT6_PWM6 (io) "Port 6, Bit 6, PWM 6.", 93 GPORT6_BIT7_PWM7 (io) "Port 6, Bit 7, PWM 7.", 95 GPORT0_BIT0_PWM7 (io) "Port 0, Bit 0, PWM 7.", 97 GPORT0_BIT1_PWM5 (io) "Port 0, Bit 1, PWM 5.", 99 GPORT0_BIT2_PWM3 (io) "Port 0, Bit 2, PWM 3."
part B pins: 1 DNU "DNU = Do Not Use; leave floating.", 2 DNU "DNU = Do Not Use; leave floating.", 12 DNU "DNU = Do Not Use; leave floating.", 13 DNU "DNU = Do Not Use; leave floating.", 14 DNU "DNU = Do Not Use; leave floating.", 15 VSS (power) "Ground connection.", 25 DNU "DNU = Do Not Use; leave floating.", 26 DNU "DNU = Do Not Use; leave floating.", 27 DNU "DNU = Do Not Use; leave floating.", 31 DNU "DNU = Do Not Use; leave floating.", 32 VDD (power) "Supply voltage.", 33 DNU "DNU = Do Not Use; leave floating.", 34 VSS (power) "Ground connection.", 35 DNU "DNU = Do Not Use; leave floating.", 48 DNU "DNU = Do Not Use; leave floating.", 49 DNU "DNU = Do Not Use; leave floating.", 50 DNU "DNU = Do Not Use; leave floating.", 51 DNU "DNU = Do Not Use; leave floating.", 60 DNU "DNU = Do Not Use; leave floating.", 61 DNU "DNU = Do Not Use; leave floating.", 65 VSS (power) "Ground connection.", 71 DNU "DNU = Do Not Use; leave floating.", 73 DNU "DNU = Do Not Use; leave floating.", 75 DNU "DNU = Do Not Use; leave floating.", 76 DNU "DNU = Do Not Use; leave floating.", 78 DNU "DNU = Do Not Use; leave floating.", 80 DNU "DNU = Do Not Use; leave floating.", 82 VDD (power) "Supply voltage.", 83 VDD (power) "Supply voltage.", 84 VSS (power) "Ground connection.", 85 VSS (power) "Ground connection.", 94 DNU "DNU = Do Not Use; leave floating.", 96 DNU "DNU = Do Not Use; leave floating.", 98 DNU "DNU = Do Not Use; leave floating.", 100 DNU "DNU = Do Not Use; leave floating."

## CY8C20134-12SXI
designator U?
PSoC Programmable System-on-Chip, M8C, 8 CapSense IO, 2.4 to 5.25 V, 8-Pin SOIC (S08); Manufacturer: Cypress; PartNumber: CY8C20134-12SXI; Comm. Interface: I2C-SPI; No. of CapSense IO: 8; Max. Operating Voltage (V): 5.25; Min. Operating Voltage (V): 2.4; No. of GPIOs: 13; Proximity Sensing: N; PWMs: SW; Rating: I; Sliders: 1; SRAM (KB): 0.5; DatasheetVersion: Rev. *Q; PackageVersion: Rev. *E; PackageReference: SX8; PackageDescription: 8-pin Lead SOIC-S08, Body 4.89 × 3.90 mm,Pitch 1.27 mm; Supplier 1: Digi-Key; Supplier Part Number 1: CY8C20134-12SXI-ND; Supplier 2: Mouser; Supplier Part Number 2: 727-CY8C20134-12SXI; CPU Core: M8C; Flash (KB): 8; Max. Operating Temp. (°C): 85; Min. Operating Temp. (°C): -40; SmartSense Enabled: N; Mounting Technology: Surface Mount; Code_JEDEC: MS-012; ComponentLink1Description: Manufacturer URL; ComponentLink1URL: http://www.cypress.com/; ComponentLink2Description: Datasheet; ComponentLink2URL: http://www.cypress.com/?docID=38076; ComponentLink3Description: Package Specification; ComponentLink3URL: http://www.cypress.com/?docID=39153; ComponentLink4Description: Product URL; ComponentLink4URL: http://www.cypress.com/?rID=3372
footprint CYP-SX8_N (SOIC, 8-Leads, Body 4.89x3.90mm, Pitch 1.27mm, IPC Medium Density)
footprint CYP-SX8_L (SOIC, 8-Leads, Body 4.89x3.90mm, Pitch 1.27mm, IPC High Density)
footprint CYP-SX8_M (SOIC, 8-Leads, Body 4.89x3.90mm, Pitch 1.27mm, IPC Low Density)
pins: 1 VSS (power) "Ground connection", 2 P0[1] (io) "Analog column mux input, integrating input", 3 P1[7] (io) "I2C serial clock (SCL)", 4 P1[5] (io) "I2C serial data (SDA)", 5 P1[1] (io) "I2C serial clock (SCL), ISSP-SCLK", 6 P1[0] (io) "I2C serial data (SDA), ISSP-SDATA", 7 P2[2] (io) "Analog column mux input", 8 VDD (power) "Supply voltage"

## CY8C20234-12LKXA
designator U?
Automotive PSoC Programmable System-on-Chip, M8C, 10 CapSense IO, 3 to 5.25 V, 16-Pin QFN (LKX16); Manufacturer: Cypress; PartNumber: CY8C20234-12LKXA; Comm. Interface: I2C-SPI; No. of CapSense IO: 10; Flash (KB): 8; Max. Operating Voltage (V): 5.25; Min. Operating Voltage (V): 3; No. of GPIOs: 13; Proximity Sensing: N; PWMs: SW; Rating: A; Sliders: 2; SRAM (KB): 0.5; DatasheetVersion: Rev. *X; PackageVersion: *E; PackageReference: LKX16; PackageDescription: 16-Pin Chip on Lead Sawn QFN, Body 3 X 3 mm, Pitch 0.5 mm; Supplier 1: Digi-Key; Supplier Part Number 1: CY8C20234-12LKXA-ND; Supplier 2: Newark; Supplier Part Number 2: 74R6200; Supplier 3: Mouser; Supplier Part Number 3: 727-8C2023412LKXA; CPU Core: M8C; Max. Operating Temp. (°C): 85; Min. Operating Temp. (°C): -40; SmartSense Enabled: N; Mounting Technology: Surface Mount; Code_JEDEC: MO-220; ComponentLink1Description: Manufacturer URL; ComponentLink1URL: http://www.cypress.com/; ComponentLink2Description: Datasheet; ComponentLink2URL: http://www.cypress.com/?docID=30505; ComponentLink3Description: Package Specification; ComponentLink3URL: http://www.cypress.com/?docID=39689; ComponentLink4Description: Product URL; ComponentLink4URL: http://www.cypress.com/?rID=40385
footprint CYP-LKX16_N (QFN, 16-Leads, Body 3x3mm, Pitch 0.5mm, IPC Medium Density)
footprint CYP-LKX16_L (QFN, 16-Leads, Body 3x3mm, Pitch 0.5mm, IPC High Density)
footprint CYP-LKX16_M (QFN, 16-Leads, Body 3x3mm, Pitch 0.5mm, IPC Low Density)
pins: 1 P2[5] (io), 2 P2[1] (io), 3 P1[7] (io) "I2C serial clock (SCL), SPI slave select (SS)", 4 P1[5] (io) "I2C serial data (SDA), SPI master-in-slave-out (MISO)", 5 P1[3] (io) "SPI serial clock (SCLK)", 6 P1[1] (io) "ISSP-SCLK, I2C serial clock (SCL), SPI master-out-slave-in (MOSI)", 7 VSS (power) "Ground connection", 8 P1[0] (io) "ISSP-SDATA, I2C serial data (SDA)", 9 P1[2] (io), 10 P1[4] (io) "Optional external clock (EXTCLK) input", 11 XRES (in) "Active high external reset with internal pull-down", 12 P0[4] (io), 13 VDD (power) "Supply voltage", 14 P0[7] (io), 15 P0[3] (io) "Integrating input", 16 P0[1] (io)

## CY8C20234-12LKXAT
designator U?
Automotive PSoC Programmable System-on-Chip, M8C, 10 CapSense IO, 3 to 5.25 V, 16-Pin QFN (LKX16), Tape and Reel; Manufacturer: Cypress; PartNumber: CY8C20234-12LKXAT; Comm. Interface: I2C-SPI; No. of CapSense IO: 10; Flash (KB): 8; Max. Operating Voltage (V): 5.25; Min. Operating Voltage (V): 3; No. of GPIOs: 13; Proximity Sensing: N; PWMs: SW; Rating: A; Sliders: 2; SRAM (KB): 0.5; DatasheetVersion: Rev. *X; PackageVersion: *E; PackageReference: LKX16; PackageDescription: 16-Pin Chip on Lead Sawn QFN, Body 3 X 3 mm, Pitch 0.5 mm; Supplier 1: Digi-Key; Supplier Part Number 1: CY8C20234-12LKXAT-ND; Supplier 2: Mouser; Supplier Part Number 2: 727-8C2023412LKXAT; CPU Core: M8C; Max. Operating Temp. (°C): 85; Min. Operating Temp. (°C): -40; Packing: Tape and Reel; SmartSense Enabled: N; Mounting Technology: Surface Mount; Code_JEDEC: MO-220; ComponentLink1Description: Manufacturer URL; ComponentLink1URL: http://www.cypress.com/; ComponentLink2Description: Datasheet; ComponentLink2URL: http://www.cypress.com/?docID=30505; ComponentLink3Description: Package Specification; ComponentLink3URL: http://www.cypress.com/?docID=39689; ComponentLink4Description: Product URL; ComponentLink4URL: http://www.cypress.com/?rID=40385
footprint CYP-LKX16_N (QFN, 16-Leads, Body 3x3mm, Pitch 0.5mm, IPC Medium Density)
footprint CYP-LKX16_L (QFN, 16-Leads, Body 3x3mm, Pitch 0.5mm, IPC High Density)
footprint CYP-LKX16_M (QFN, 16-Leads, Body 3x3mm, Pitch 0.5mm, IPC Low Density)
pins: 1 P2[5] (io), 2 P2[1] (io), 3 P1[7] (io) "I2C serial clock (SCL), SPI slave select (SS)", 4 P1[5] (io) "I2C serial data (SDA), SPI master-in-slave-out (MISO)", 5 P1[3] (io) "SPI serial clock (SCLK)", 6 P1[1] (io) "ISSP-SCLK, I2C serial clock (SCL), SPI master-out-slave-in (MOSI)", 7 VSS (power) "Ground connection", 8 P1[0] (io) "ISSP-SDATA, I2C serial data (SDA)", 9 P1[2] (io), 10 P1[4] (io) "Optional external clock (EXTCLK) input", 11 XRES (in) "Active high external reset with internal pull-down", 12 P0[4] (io), 13 VDD (power) "Supply voltage", 14 P0[7] (io), 15 P0[3] (io) "Integrating input", 16 P0[1] (io)

## CY8C20234-12LKXI
designator U?
PSoC Programmable System-on-Chip, M8C, 10 CapSense IO, 2.4 to 5.25 V, 16-Pin QFN (LKX16); Manufacturer: Cypress; PartNumber: CY8C20234-12LKXI; Comm. Interface: I2C-SPI; No. of CapSense IO: 10; Flash (KB): 8; Max. Operating Voltage (V): 5.25; Min. Operating Voltage (V): 2.4; No. of GPIOs: 13; Proximity Sensing: N; PWMs: SW; Rating: I; Sliders: 2; SRAM (KB): 0.5; DatasheetVersion: Rev. *Q; PackageVersion: *E; PackageReference: LKX16; PackageDescription: 16-Pin Chip on Lead Sawn QFN, Body 3 X 3 mm, Pitch 0.5 mm; Supplier 1: Digi-Key; Supplier Part Number 1: CY8C20234-12LKXI-ND; Supplier 2: Newark; Supplier Part Number 2: 19M7148; Supplier 3: Mouser; Supplier Part Number 3: 727-CY8C20234-12LKXI; CPU Core: M8C; Max. Operating Temp. (°C): 85; Min. Operating Temp. (°C): -40; SmartSense Enabled: N; Mounting Technology: Surface Mount; Code_JEDEC: MO-220; ComponentLink1Description: Manufacturer URL; ComponentLink1URL: http://www.cypress.com/; ComponentLink2Description: Datasheet; ComponentLink2URL: http://www.cypress.com/?docID=38076; ComponentLink3Description: Package Specification; ComponentLink3URL: http://www.cypress.com/?docID=39689; ComponentLink4Description: Product URL; ComponentLink4URL: http://www.cypress.com/?rID=3372
footprint CYP-LKX16_N (QFN, 16-Leads, Body 3x3mm, Pitch 0.5mm, IPC Medium Density)
footprint CYP-LKX16_L (QFN, 16-Leads, Body 3x3mm, Pitch 0.5mm, IPC High Density)
footprint CYP-LKX16_M (QFN, 16-Leads, Body 3x3mm, Pitch 0.5mm, IPC Low Density)
pins: 1 P2[5] (io), 2 P2[1] (io), 3 P1[7] (io) "I2C serial clock (SCL), SPI slave select (SS)", 4 P1[5] (io) "I2C serial data (SDA), SPI master-in-slave-out (MISO)", 5 P1[3] (io) "SPI serial clock (SCLK)", 6 P1[1] (io) "ISSP-SCLK, I2C serial clock (SCL), SPI master-out-slave-in (MOSI)", 7 VSS (power) "Ground connection", 8 P1[0] (io) "ISSP-SDATA, I2C serial data (SDA)", 9 P1[2] (io), 10 P1[4] (io) "Optional external clock (EXTCLK) input", 11 XRES (in) "Active high external reset with internal pull-down", 12 P0[4] (io), 13 VDD (power) "Supply voltage", 14 P0[7] (io), 15 P0[3] (io) "Integrating input", 16 P0[1] (io)

## CY8C20234-12LKXIT
designator U?
PSoC Programmable System-on-Chip, 8 KB Flash, 13 GPIOs, 2.40 to 5.25 V, 16-Pin SOIC (S16.15), Tape and Reel; Manufacturer: Cypress; PartNumber: CY8C20234-12LKXIT; Comm. Interface: I2C-SPI; CPU Core: M8C; No. of CapSense IO: 10; Flash (KB): 8; Max. Operating Voltage (V): 5.25; Min. Operating Voltage (V): 2.4; No. of GPIOs: 13; Proximity Sensing: N; PWMs: SW; Rating: I; Sliders: 2; SRAM (KB): 0.5; DatasheetVersion: Rev. *Q; PackageReference: SX16; PackageDescription: 16-Pin SOIC (150 MIL), Body 9.89 x 3.90 mm, Pitch 1.27 mm; Supplier 1: Digi-Key; Supplier Part Number 1: CY8C20234-12LKXIT-ND; Supplier 2: Newark; Supplier Part Number 2: 19M7149; Supplier 3: Mouser; Supplier Part Number 3: 727-CY8C2023412LKXIT; Max. Operating Temp. (°C): 85; Min. Operating Temp. (°C): -40; Packing: Tape and Reel; SmartSense Enabled: N; Mounting Technology: Surface Mount; Code_JEDEC: MS-012; ComponentLink1Description: Manufacturer URL; ComponentLink1URL: http://www.cypress.com/; ComponentLink2Description: Datasheet; ComponentLink2URL: http://www.cypress.com/?docID=38076; ComponentLink3Description: Package Specification; ComponentLink3URL: http://www.cypress.com/?docID=39437; ComponentLink4Description: Product URL; ComponentLink4URL: http://www.cypress.com/?rID=3372
footprint CYP-SX16_N (SOIC, 16-Leads, Body 9.9x3.9mm, Pitch 1.27mm, IPC Medium Density)
footprint CYP-SX16_L (SOIC, 16-Leads, Body 9.9x3.9mm, Pitch 1.27mm, IPC High Density)
footprint CYP-SX16_M (SOIC, 16-Leads, Body 9.9x3.9mm, Pitch 1.27mm, IPC Low Density)
pins: 1 P2[5] (io), 2 P2[1] (io), 3 P1[7] (io) "I2C serial clock (SCL), SPI slave select (SS)", 4 P1[5] (io) "I2C serial data (SDA), SPI master-in-slave-out (MISO)", 5 P1[3] (io) "SPI serial clock (SCLK)", 6 P1[1] (io) "ISSP-SCLK, I2C serial clock (SCL), SPI master-out-slave-in (MOSI)", 7 VSS (power) "Ground connection", 8 P1[0] (io) "ISSP-SDATA, I2C serial data (SDA)", 9 P1[2] (io), 10 P1[4] (io) "Optional external clock (EXTCLK) input", 11 XRES (in) "Active high external reset with internal pull-down", 12 P0[4] (io), 13 VDD (power) "Supply voltage", 14 P0[7] (io), 15 P0[3] (io) "Integrating input", 16 P0[1] (io)

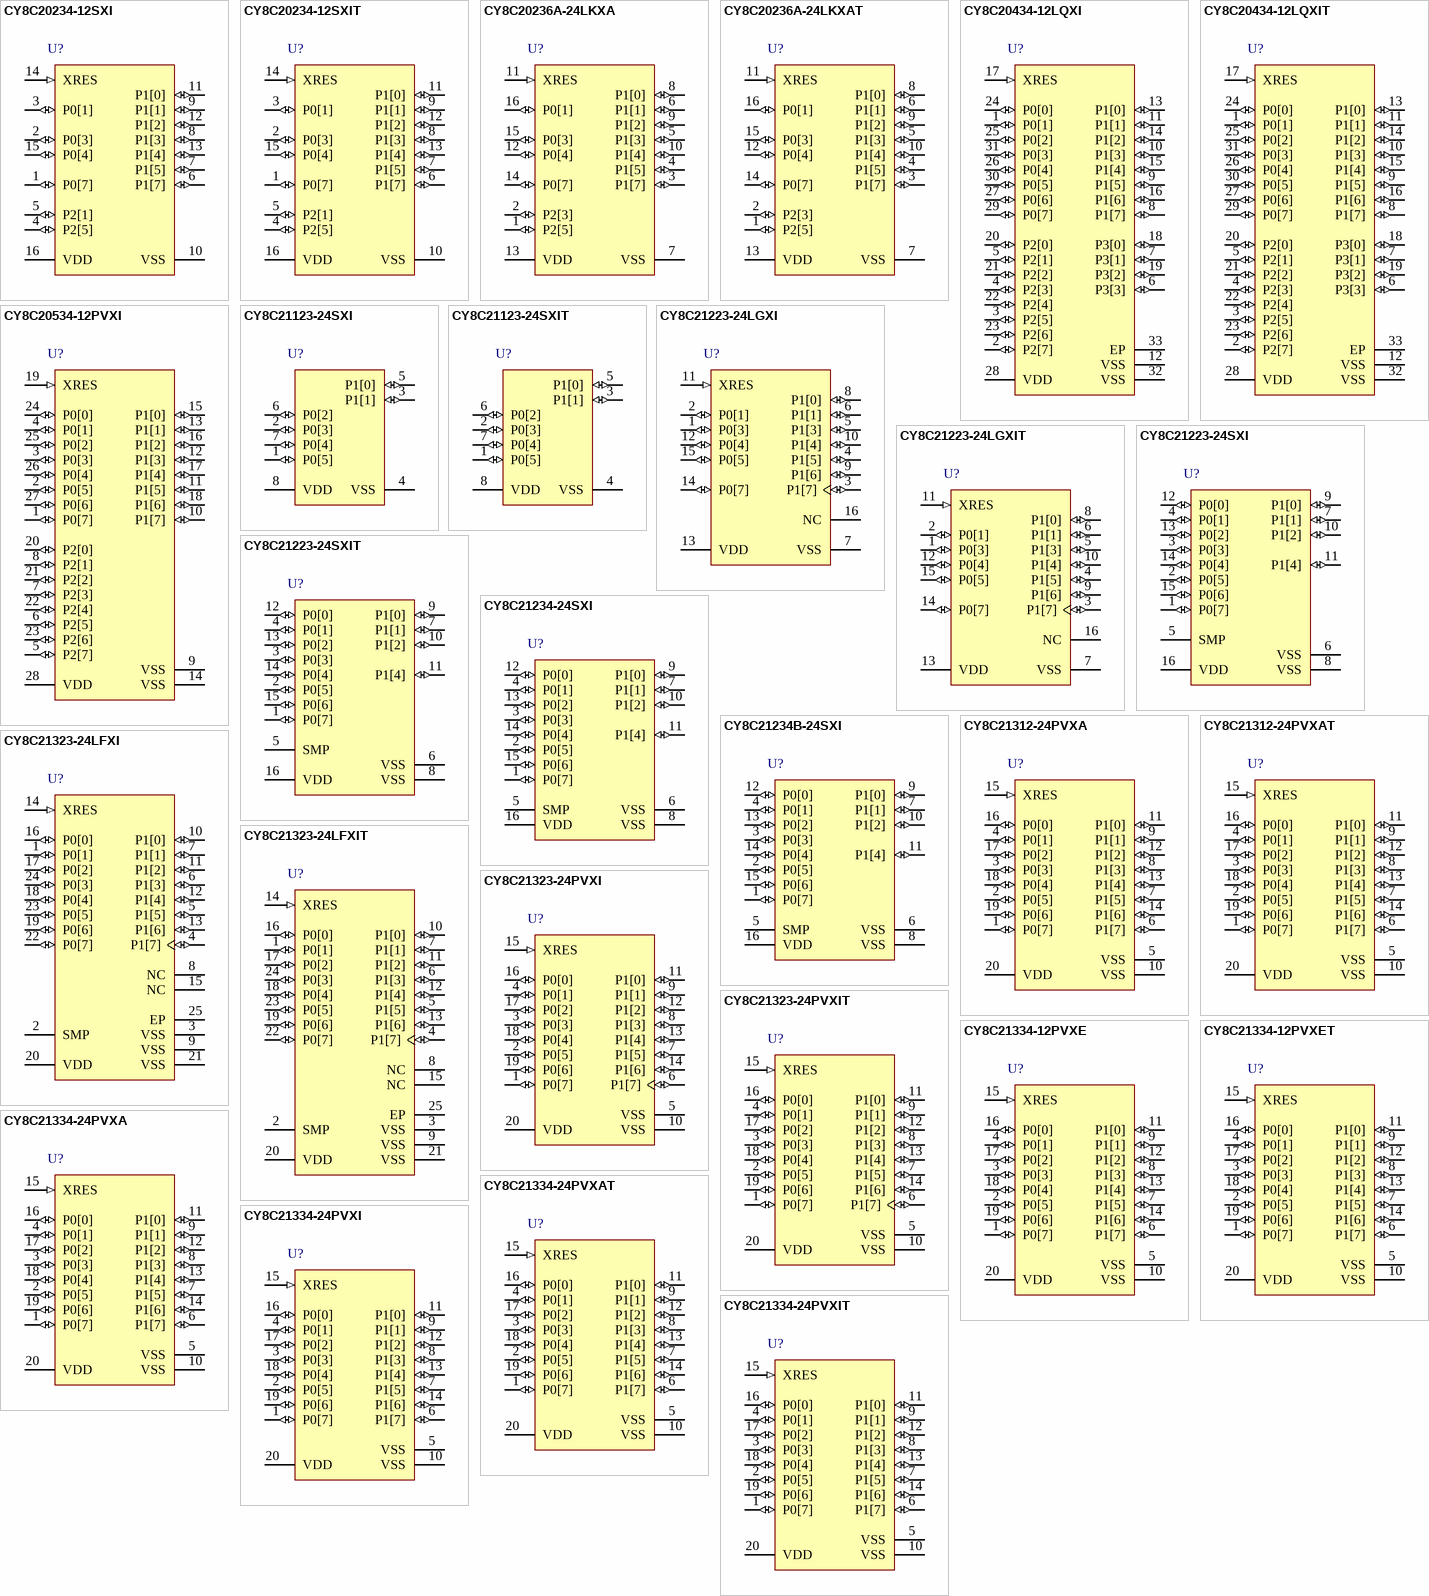
[diagram p1: symbols CY8C20234-12SXI to CY8C21334-24PVXIT]

## CY8C20234-12SXI
designator U?
PSoC Programmable System-on-Chip, M8C, 13 GPIOs, 2.40 to 5.25 V, 16-Pin SOIC (SX16); Manufacturer: Cypress; PartNumber: CY8C20234-12SXI; Comm. Interface: I2C-SPI; No. of CapSense IO: 10; Flash (KB): 8; Max. Operating Voltage (V): 5.25; Min. Operating Voltage (V): 2.4; No. of GPIOs: 13; Proximity Sensing: N; PWMs: SW; Rating: I; Sliders: 1; SRAM (KB): 0.5; DatasheetVersion: Rev. *Q; PackageReference: SX16; PackageDescription: 16-Pin SOIC (150 MIL), Body 9.89 x 3.90 mm, Pitch 1.27 mm; Supplier 1: Digi-Key; Supplier Part Number 1: CY8C20234-12SXI-ND; Supplier 2: Mouser; Supplier Part Number 2: 727-CY8C20234-12SXI; CPU Core: M8C; Max. Operating Temp. (°C): 85; Min. Operating Temp. (°C): -40; SmartSense Enabled: N; Mounting Technology: Surface Mount; Code_JEDEC: MS-012; ComponentLink1Description: Manufacturer URL; ComponentLink1URL: http://www.cypress.com/; ComponentLink2Description: Datasheet; ComponentLink2URL: http://www.cypress.com/?docID=38076; ComponentLink3Description: Package Specification; ComponentLink3URL: http://www.cypress.com/?docID=39437; ComponentLink4Description: Product URL; ComponentLink4URL: http://www.cypress.com/?rID=3372
footprint CYP-SX16_N (SOIC, 16-Leads, Body 9.9x3.9mm, Pitch 1.27mm, IPC Medium Density)
footprint CYP-SX16_L (SOIC, 16-Leads, Body 9.9x3.9mm, Pitch 1.27mm, IPC High Density)
footprint CYP-SX16_M (SOIC, 16-Leads, Body 9.9x3.9mm, Pitch 1.27mm, IPC Low Density)
pins: 1 P0[7] (io) "Analog column mux input", 2 P0[3] (io) "Analog column mux input and column input, integrating input", 3 P0[1] (io) "Analog column mux input, integrating input", 4 P2[5] (io) "Analog column mux input", 5 P2[1] (io) "Analog column mux input", 6 P1[7] (io) "I2C serial clock (SCL), SPI SS", 7 P1[5] (io) "I2C serial data (SDA),SPI MISO", 8 P1[3] (io) "Analog column mux input, SPI CLK", 9 P1[1] (io) "I2C serial clock (SCL), ISSP-SCLK,SPI MOSI", 10 VSS (power) "Ground connection", 11 P1[0] (io) "I2C serial data (SDA), ISSP-SDATA", 12 P1[2] (io) "Analog column mux input", 13 P1[4] (io) "Analog column mux input, optional external clock input (EXTCLK)", 14 XRES (in), 15 P0[4] (io) "Analog column mux input", 16 VDD (power) "Supply voltage"

## CY8C20234-12SXIT
designator U?
PSoC Programmable System-on-Chip, M8C, 13 GPIOs, 2.40 to 5.25 V, 32-Pin QFN (SX16), Tape and Reel; Manufacturer: Cypress; PartNumber: CY8C20234-12SXIT; Comm. Interface: I2C-SPI; No. of CapSense IO: 10; Flash (KB): 8; Max. Operating Voltage (V): 5.25; Min. Operating Voltage (V): 2.4; No. of GPIOs: 13; Proximity Sensing: N; PWMs: SW; Rating: I; Sliders: 1; SRAM (KB): 0.5; DatasheetVersion: Rev. *Q; PackageReference: SX16; PackageDescription: 16-Pin SOIC (150 MIL), Body 9.89 x 3.90 mm, Pitch 1.27 mm; Supplier 1: Digi-Key; Supplier Part Number 1: CY8C20234-12SXIT-ND; Supplier 2: Mouser; Supplier Part Number 2: 727-CY8C20234-12SXIT; CPU Core: M8C; Max. Operating Temp. (°C): 85; Min. Operating Temp. (°C): -40; Packing: Tape and Reel; SmartSense Enabled: N; Mounting Technology: Surface Mount; Code_JEDEC: MS-012; ComponentLink1Description: Manufacturer URL; ComponentLink1URL: http://www.cypress.com/; ComponentLink2Description: Datasheet; ComponentLink2URL: http://www.cypress.com/?docID=38076; ComponentLink3Description: Package Specification; ComponentLink3URL: http://www.cypress.com/?docID=39437; ComponentLink4Description: Product URL; ComponentLink4URL: http://www.cypress.com/?rID=3372
footprint CYP-SX16_N (SOIC, 16-Leads, Body 9.9x3.9mm, Pitch 1.27mm, IPC Medium Density)
footprint CYP-SX16_L (SOIC, 16-Leads, Body 9.9x3.9mm, Pitch 1.27mm, IPC High Density)
footprint CYP-SX16_M (SOIC, 16-Leads, Body 9.9x3.9mm, Pitch 1.27mm, IPC Low Density)
pins: 1 P0[7] (io) "Analog column mux input", 2 P0[3] (io) "Analog column mux input and column input, integrating input", 3 P0[1] (io) "Analog column mux input, integrating input", 4 P2[5] (io) "Analog column mux input", 5 P2[1] (io) "Analog column mux input", 6 P1[7] (io) "I2C serial clock (SCL), SPI SS", 7 P1[5] (io) "I2C serial data (SDA),SPI MISO", 8 P1[3] (io) "Analog column mux input, SPI CLK", 9 P1[1] (io) "I2C serial clock (SCL), ISSP-SCLK,SPI MOSI", 10 VSS (power) "Ground connection", 11 P1[0] (io) "I2C serial data (SDA), ISSP-SDATA", 12 P1[2] (io) "Analog column mux input", 13 P1[4] (io) "Analog column mux input, optional external clock input (EXTCLK)", 14 XRES (in), 15 P0[4] (io) "Analog column mux input", 16 VDD (power) "Supply voltage"

## CY8C20236A-24LKXA
designator U?
Automotive CapSense Applications, 8 KB Flash, 13 GPIOs, 1.71 to 5.50 V, 16-Pin QFN (LD16A); Manufacturer: Cypress; PartNumber: CY8C20236A-24LKXA; Comm. Interface: I2C-SPI; CPU Core: M8C; No. of CapSense IO: 10; Flash (KB): 8; Max. Operating Voltage (V): 5.5; Min. Operating Voltage (V): 1.71; No. of GPIOs: 13; Proximity Sensing: N; PWMs: SW; Rating: A; Sliders: 2; SmartSense Enabled: Y; SRAM (KB): 1; DatasheetVersion: Rev. *B; PackageVersion: *E; PackageReference: LKX16; PackageDescription: 16-Pin Chip on Lead Sawn QFN, Body 3 X 3 mm, Pitch 0.5 mm; Supplier 1: Digi-Key; Supplier Part Number 1: CY8C20236A-24LKXA-ND; Supplier 2: Mouser; Supplier Part Number 2: 727-CY8C20236A24LKXA; Max. Operating Temp. (°C): 85; Min. Operating Temp. (°C): -40; Mounting Technology: Surface Mount; Code_JEDEC: MO-220; ComponentLink1Description: Manufacturer URL; ComponentLink1URL: http://www.cypress.com/; ComponentLink2Description: Datasheet; ComponentLink2URL: http://www.cypress.com/?docID=34246; ComponentLink3Description: Package Specification; ComponentLink3URL: http://www.cypress.com/?docID=39689; ComponentLink4Description: Product URL; ComponentLink4URL: http://www.cypress.com/?rID=59680
footprint CYP-LKX16_N (QFN, 16-Leads, Body 3x3mm, Pitch 0.5mm, IPC Medium Density)
footprint CYP-LKX16_L (QFN, 16-Leads, Body 3x3mm, Pitch 0.5mm, IPC High Density)
footprint CYP-LKX16_M (QFN, 16-Leads, Body 3x3mm, Pitch 0.5mm, IPC Low Density)
pins: 1 P2[5] (io) "ECO output (XOut)", 2 P2[3] (io) "ECO input (XIn)", 3 P1[7] (io) "I2C SCL, SPI SS", 4 P1[5] (io) "I2C SDA, SPI MISO", 5 P1[3] (io) "SPI SCLK", 6 P1[1] (io) "ISSP CLK, I2C SCL, SPI MOSI", 7 VSS (power) "Ground connection", 8 P1[0] (io) "ISSP DATA, I2C SDA, SPI CLK", 9 P1[2] (io), 10 P1[4] (io) "Optional external clock input (EXTCLK)", 11 XRES (in) "Active high external reset with internal pull-down", 12 P0[4] (io), 13 VDD (power) "Supply voltage", 14 P0[7] (io), 15 P0[3] (io) "Integrating input", 16 P0[1] (io) "Integrating input"

## CY8C20236A-24LKXAT
designator U?
Automotive CapSense Applications, 8 KB Flash, 13 GPIOs, 1.71 to 5.50 V, 16-Pin QFN (LD16A), Tape and Reel; Manufacturer: Cypress; PartNumber: CY8C20236A-24LKXAT; Comm. Interface: I2C-SPI; CPU Core: M8C; No. of CapSense IO: 10; Flash (KB): 8; Max. Operating Voltage (V): 5.5; Min. Operating Voltage (V): 1.71; No. of GPIOs: 13; Proximity Sensing: N; PWMs: SW; Rating: A; Sliders: 2; SmartSense Enabled: Y; SRAM (KB): 1; DatasheetVersion: Rev. *B; PackageVersion: *E; PackageReference: LKX16; PackageDescription: 16-Pin Chip on Lead Sawn QFN, Body 3 X 3 mm, Pitch 0.5 mm; Supplier 1: Mouser; Supplier Part Number 1: 727-8C20236A-24LKXAT; Max. Operating Temp. (°C): 85; Min. Operating Temp. (°C): -40; Packing: Tape and Reel; Mounting Technology: Surface Mount; Code_JEDEC: MO-220; ComponentLink1Description: Manufacturer URL; ComponentLink1URL: http://www.cypress.com/; ComponentLink2Description: Datasheet; ComponentLink2URL: http://www.cypress.com/?docID=34246; ComponentLink3Description: Package Specification; ComponentLink3URL: http://www.cypress.com/?docID=39689; ComponentLink4Description: Product URL; ComponentLink4URL: http://www.cypress.com/?rID=59680
footprint CYP-LKX16_N (QFN, 16-Leads, Body 3x3mm, Pitch 0.5mm, IPC Medium Density)
footprint CYP-LKX16_L (QFN, 16-Leads, Body 3x3mm, Pitch 0.5mm, IPC High Density)
footprint CYP-LKX16_M (QFN, 16-Leads, Body 3x3mm, Pitch 0.5mm, IPC Low Density)
pins: 1 P2[5] (io) "ECO output (XOut)", 2 P2[3] (io) "ECO input (XIn)", 3 P1[7] (io) "I2C SCL, SPI SS", 4 P1[5] (io) "I2C SDA, SPI MISO", 5 P1[3] (io) "SPI SCLK", 6 P1[1] (io) "ISSP CLK, I2C SCL, SPI MOSI", 7 VSS (power) "Ground connection", 8 P1[0] (io) "ISSP DATA, I2C SDA, SPI CLK", 9 P1[2] (io), 10 P1[4] (io) "Optional external clock input (EXTCLK)", 11 XRES (in) "Active high external reset with internal pull-down", 12 P0[4] (io), 13 VDD (power) "Supply voltage", 14 P0[7] (io), 15 P0[3] (io) "Integrating input", 16 P0[1] (io) "Integrating input"

## CY8C20434-12LQXI
designator U?
PSoC Programmable System-on-Chip, M8C, 25 CapSense IO, 2.4 to 5.25 V, 32-Pin QFN (LQX32); Manufacturer: Cypress; PartNumber: CY8C20434-12LQXI; Comm. Interface: I2C-SPI; No. of CapSense IO: 25; Flash (KB): 8; Max. Operating Voltage (V): 5.25; Min. Operating Voltage (V): 2.4; No. of GPIOs: 28; Proximity Sensing: N; PWMs: SW; Rating: I; Sliders: 5; SRAM (KB): 0.5; DatasheetVersion: Rev. *Q; PackageReference: LQX32; PackageDescription: 32-Pin QFN (5 x 4 x 0.55 mm) LQ32 3.5 x 3.5 E-Pad (Sawn); Supplier 1: Digi-Key; Supplier Part Number 1: 428-2945-ND; Supplier 2: Farnell; Supplier Part Number 2: 1876392; Supplier 3: Newark; Supplier Part Number 3: 50R9540; Supplier 4: Mouser; Supplier Part Number 4: 727-CY8C20434-12LQXI; CPU Core: M8C; Max. Operating Temp. (°C): 85; Min. Operating Temp. (°C): -40; SmartSense Enabled: N; Mounting Technology: Surface Mount; Code_JEDEC: MO-248; ComponentLink1Description: Manufacturer URL; ComponentLink1URL: http://www.cypress.com/; ComponentLink2Description: Datasheet; ComponentLink2URL: http://www.cypress.com/?docID=38076; ComponentLink3Description: Package Specification; ComponentLink3URL: http://www.cypress.com/?docID=40402; ComponentLink4Description: Product URL; ComponentLink4URL: http://www.cypress.com/?rID=3372
footprint CYP-LQX32_N (QFN, 32-Leads, Body 5x5mm, Pitch 0.5mm, Thermal Pad 3.5x3.5mm, IPC Medium Density)
footprint CYP-LQX32_L (QFN, 32-Leads, Body 5x5mm, Pitch 0.5mm, Thermal Pad 3.5X3.5mm, IPC High Density)
footprint CYP-LQX32_M (QFN, 32-Leads, Body 5x5mm, Pitch 0.5mm, Thermal Pad 3.5x3.5mm, IPC Low Density)
pins: 1 P0[1] (io), 2 P2[7] (io), 3 P2[5] (io), 4 P2[3] (io), 5 P2[1] (io), 6 P3[3] (io), 7 P3[1] (io), 8 P1[7] (io) "I2C SCL,SPI SS", 9 P1[5] (io) "I2C SDA,SPI MISO", 10 P1[3] (io) "SPI CLK", 11 P1[1] (io) "CLK,I2C SCL,SPI MOSI", 12 VSS (power) "Ground Connection", 13 P1[0] (io) "DATA,I2C SDA", 14 P1[2] (io), 15 P1[4] (io) "Optional external clock input (EXTCLK)", 16 P1[6] (io), 17 XRES (in) "Active high external reset with internal pull-down", 18 P3[0] (io), 19 P3[2] (io), 20 P2[0] (io), 21 P2[2] (io), 22 P2[4] (io), 23 P2[6] (io), 24 P0[0] (io), 25 P0[2] (io), 26 P0[4] (io), 27 P0[6] (io) "Analog bypass", 28 VDD (power) "Supply voltage", 29 P0[7] (io), 30 P0[5] (io), 31 P0[3] (io) "Integrating input", 32 VSS (power) "Ground connection", 33 EP (power) "Center pad is connected to ground"

## CY8C20434-12LQXIT
designator U?
PSoC Programmable System-on-Chip, M8C, 25 CapSense IO, 2.4 to 5.25 V, 32-Pin QFN (LQX32), Tape and Reel; Manufacturer: Cypress; PartNumber: CY8C20434-12LQXIT; Comm. Interface: I2C-SPI; No. of CapSense IO: 25; Flash (KB): 8; Max. Operating Voltage (V): 5.25; Min. Operating Voltage (V): 2.4; No. of GPIOs: 28; Proximity Sensing: N; PWMs: SW; Rating: I; Sliders: 5; SRAM (KB): 0.5; DatasheetVersion: Rev. *Q; PackageReference: LQX32; PackageDescription: 32-Pin QFN (5 x 4 x 0.55 mm) LQ32 3.5 x 3.5 E-Pad (Sawn); Supplier 1: Digi-Key; Supplier Part Number 1: CY8C20434-12LQXIT-ND; Supplier 2: Mouser; Supplier Part Number 2: 727-CY8C2043412LQXIT; CPU Core: M8C; Max. Operating Temp. (°C): 85; Min. Operating Temp. (°C): -40; Packing: Tape and Reel; SmartSense Enabled: N; Mounting Technology: Surface Mount; Code_JEDEC: MO-248; ComponentLink1Description: Manufacturer URL; ComponentLink1URL: http://www.cypress.com/; ComponentLink2Description: Datasheet; ComponentLink2URL: http://www.cypress.com/?docID=38076; ComponentLink3Description: Package Specification; ComponentLink3URL: http://www.cypress.com/?docID=40402; ComponentLink4Description: Product URL; ComponentLink4URL: http://www.cypress.com/?rID=3372
footprint CYP-LQX32_N (QFN, 32-Leads, Body 5x5mm, Pitch 0.5mm, Thermal Pad 3.5x3.5mm, IPC Medium Density)
footprint CYP-LQX32_L (QFN, 32-Leads, Body 5x5mm, Pitch 0.5mm, Thermal Pad 3.5X3.5mm, IPC High Density)
footprint CYP-LQX32_M (QFN, 32-Leads, Body 5x5mm, Pitch 0.5mm, Thermal Pad 3.5x3.5mm, IPC Low Density)
pins: 1 P0[1] (io), 2 P2[7] (io), 3 P2[5] (io), 4 P2[3] (io), 5 P2[1] (io), 6 P3[3] (io), 7 P3[1] (io), 8 P1[7] (io) "I2C SCL,SPI SS", 9 P1[5] (io) "I2C SDA,SPI MISO", 10 P1[3] (io) "SPI CLK", 11 P1[1] (io) "CLK,I2C SCL,SPI MOSI", 12 VSS (power) "Ground Connection", 13 P1[0] (io) "DATA,I2C SDA", 14 P1[2] (io), 15 P1[4] (io) "Optional external clock input (EXTCLK)", 16 P1[6] (io), 17 XRES (in) "Active high external reset with internal pull-down", 18 P3[0] (io), 19 P3[2] (io), 20 P2[0] (io), 21 P2[2] (io), 22 P2[4] (io), 23 P2[6] (io), 24 P0[0] (io), 25 P0[2] (io), 26 P0[4] (io), 27 P0[6] (io) "Analog bypass", 28 VDD (power) "Supply voltage", 29 P0[7] (io), 30 P0[5] (io), 31 P0[3] (io) "Integrating input", 32 VSS (power) "Ground connection", 33 EP (power) "Center pad is connected to ground"